# EAGLE library part SP3232EUEY-L_TR (library SamacSys_Parts)
RS-232 Interface IC 3.3V, 1000 Kbps RS-232 Source: Datasheet <https://datasheet.datasheetarchive.com/originals/distributors/Datasheets_SAMA/9b66dad8250378b5312f2fa07e29d82a.pdf>
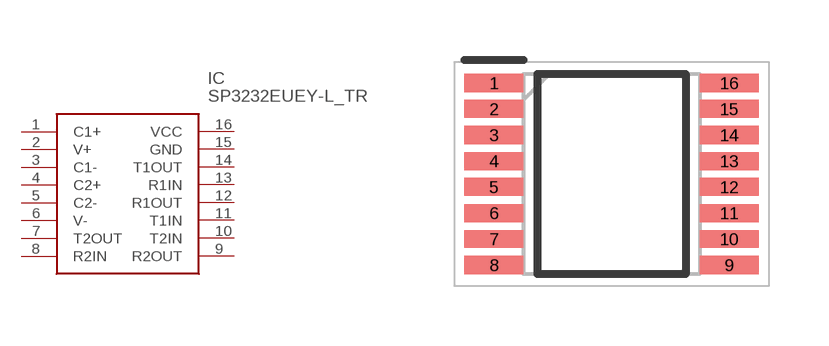
[diagram p41: symbol with the pads of SOP65P640X120-16N; footprint SOP65P640X120-16N]

Designator prefix IC

## SP3232EUEY-L_TR (DESCRIPTION: RS-232 Interface IC 3.3V, 1000 Kbps RS-232; HEIGHT: 1.2mm; MANUFACTURER_NAME: MaxLinear, Inc.; MANUFACTURER_PART_NUMBER: SP3232EUEY-L/TR; MOUSER_PART_NUMBER: 701-SP3232EUEY-L/TR; MOUSER_PRICE-STOCK: https://www.mouser.co.uk/ProductDetail/MaxLinear/SP3232EUEY-L-TR?qs=3EMgrMjM0fY9aSv6CWrfyA%3D%3D)  [SOP65P640X120-16N]
1  C1+
2  V+
3  C1-
4  C2+
5  C2-
6  V-
7  T2OUT
8  R2IN
9  R2OUT
10  T2IN
11  T1IN
12  R1OUT
13  R1IN
14  T1OUT
15  GND
16  VCC

## Footprint SOP65P640X120-16N (pad centres in mm)
PW0016A
smd 1.475 x 0.45: 1 -2.938,2.275; 2 -2.938,1.625; 3 -2.938,0.975; 4 -2.938,0.325; 5 -2.938,-0.325; 6 -2.938,-0.975; 7 -2.938,-1.625; 8 -2.938,-2.275; 9 2.938,-2.275; 10 2.938,-1.625; 11 2.938,-0.975; 12 2.938,-0.325; 13 2.938,0.325; 14 2.938,0.975; 15 2.938,1.625; 16 2.938,2.275